# Altium schematic symbol library Components - 20.04.20 - 16.42.SchLib: 1 symbol
Pins are listed as number, name and electrical type; pins without a type are passive.

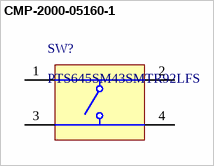
[diagram p0: symbol CMP-2000-05160-1]

## CMP-2000-05160-1
designator SW?, comment PTS645SM43SMTR92LFS
6 mm Tact Switche, SPST, NO, -20 to 60 degC, 4-Pin SMT, RoHS, Tape and Reel; Manufacturer: ITT Cannon; Manufacturer URL: http://www.ittcannon.com/; Datasheet Version: Feb-14; Datasheet URL: https://datasheet.ciiva.com/29903/getdatasheetpartid-786341-29903846.pdf
footprint ITT-PTS645S-4_V (TH, 4-Leads, Body 6x6mm)
pins: 1, 2, 3, 4